# Altium schematic symbol library Urukul.SCHLIB: 1 symbol
Pins are listed as number, name and electrical type; pins without a type are passive.

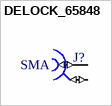
[diagram p0: symbol DELOCK_65848]

## DELOCK_65848
designator J?, comment SMA
50 Ohm Through Hole SMA Right Angle PCB Jack; Part Number: DELOCK_65848; Manufacturer: DELOCK; Manufacturer Part Number: 5848 (4043619658480); PressFit: No; Component Kind: Standard; Component Type: Standard; Footprint: DELOCK_65848; Pin Count: 5; Family: SMA; Mounted: Yes; Socket: No; SMD: No; Sense: No; Status: None; Part Description: 50 Ohm Through Hole SMA Right Angle PCB Jack; ComponentHeight: 12.5; HelpURL: \\cern.ch\dfs\Applications\Altium\Datasheets\AMPHENOL_132203-16.pdf; Author: GK; CreateDate: 13.05.2019; LatestRevisionDate: 13.05.2019
footprint DELOCK_65848 (Footprint not found)
pins: 1 (io), 2 (io)